# Altium footprint library Beethoven-clock.PcbLib: 36 footprints (part 3 of 3)
Each footprint in its own frame and in the unit in brackets; x right, y up, seen from the top. Pads: shape width x height; smd on the part's side, far side on the other; paste and mask are expansions set on the pad; w line width, h text height; cw(c..) or ccw(c..) is an arc to the next point about the centre after c.
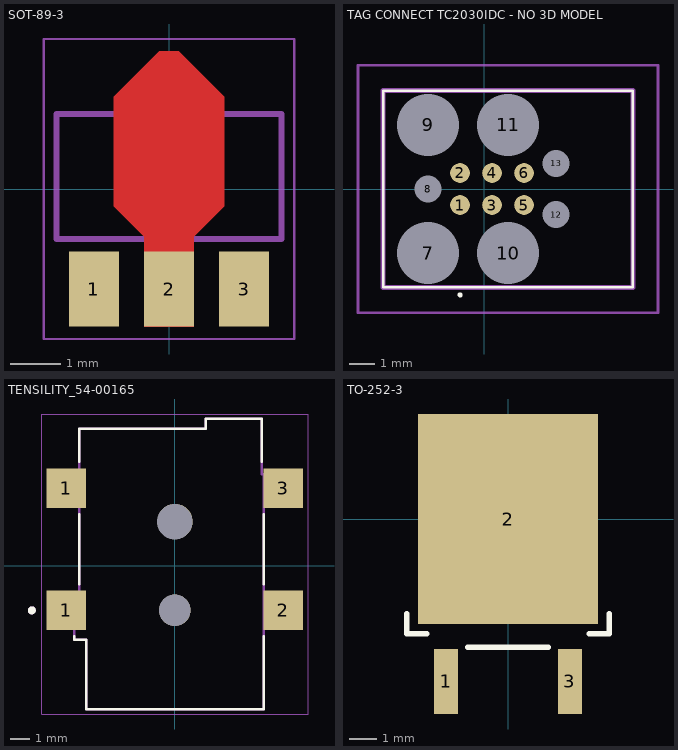
[diagram p2: the footprints below, top view; thin cyan lines are the x and y axes]

## SOT-89-3 [mm]
pads (3):
  rect 1x1.5 smd: 1(-1.5,-2) 3(1.5,-2)
  rect 1x1.5 smd paste-2: 2(0,-2)
Top Layer:
  region: 1.1,1.85 1.1,-0.35 0.5,-0.95 0.5,-2.75 -0.5,-2.75 -0.5,-0.95 -1.1,-0.35 -1.1,1.85 -0.2,2.75 0.2,2.75
Top Paste:
  region: 1.1,1.85 1.1,-0.35 0.5,-0.95 0.5,-2.75 -0.5,-2.75 -0.5,-0.95 -1.1,-0.35 -1.1,1.85 -0.2,2.75 0.2,2.75
Top Solder:
  region: 1.2,1.85 1.2,-0.35 0.6,-0.95 0.6,-2.85 -0.6,-2.85 -0.6,-0.95 -1.2,-0.35 -1.2,1.85 -0.2,2.85 0.2,2.85
Mechanical 13:
  lines w0.127: -2.25,-1 2.25,-1 2.25,1.5 -2.25,1.5 -2.25,-1
Mechanical 15:
  lines w0.05: -2.5,-3 2.5,-3 2.5,3 -2.5,3 -2.5,-3
3D body "step_temp.STEP": height 1.6, standoff 0, extent -2.25,-2.047 2.25,2.047

## TAG CONNECT TC2030IDC - NO 3D MODEL [mil]
pads (13):
  round 30.83 smd: 1(-37.52,-25) 2(-37.52,25) 3(12.48,-25) 4(12.48,25) 5(62.52,-25) 6(62.52,25)
  round 48.25 hole 96.5 unplated: 7(-87.52,-100) 9(-87.52,100) 10(37.48,-100) 11(37.48,100)
  round 21 hole 42.01 unplated: 8(-87.52,0) 12(112.48,-40) 13(112.48,40)
Top Overlay:
  lines w3.94: -157.48,-153.54 232.28,-153.54 232.28,153.54 -157.48,153.54 -157.48,-153.54 ; -39.37,-165.35 cw(c-37.4,-165.35) -35.43,-165.35 cw(c-37.4,-165.35) -39.37,-165.35
Mechanical 13:
  lines w7.87: -157.48,-153.54 232.28,-153.54 232.28,153.54 -157.48,153.54 -157.48,-153.54
Mechanical 15:
  lines w3.94: -196.85,-192.91 271.65,-192.91 271.65,192.91 -196.85,192.91 -196.85,-192.91

## TENSILITY_54-00165 [mm]
height 11.3
pads (6):
  rect 2x2 smd mask+0.05: 1(-5.5,-2.25) 1(-5.5,3.95) 2(5.5,-2.25) 3(5.5,3.95)
  round 1.6 hole 1.6 unplated: ""(0,-2.25)
  round 1.8 hole 1.8 unplated: ""(0,2.25)
Top Overlay:
  circle w0.2: c-7.25,-2.25 r0.1
  lines w0.127: -5.1,-3.57 -5.1,-3.75 -4.5,-3.75 -4.5,-7.25 4.5,-7.25 4.5,-3.57 ; -4.85,-0.93 -4.85,2.63 ; -4.85,5.27 -4.85,6.95 1.55,6.95 1.55,7.45 4.4,7.45 4.4,5.27 ; 4.5,-0.93 4.5,2.63
Mechanical 13:
  circle w0.2: c-7.25,-2.25 r0.1
  lines w0.127: -5.1,-3.75 -5.1,-2.15 -4.85,-2.15 -4.85,6.95 1.55,6.95 1.55,7.45 4.4,7.45 4.4,4.65 4.5,4.65 4.5,-7.25 -4.5,-7.25 -4.5,-3.75 -5.1,-3.75
Mechanical 15:
  lines w0.05: -6.75,-7.5 -6.75,7.7 6.75,7.7 6.75,-7.5 -6.75,-7.5
3D body "step_temp.STEP": height 11, standoff -1.2, extent -6.2,-7.25 6.2,7.45

## TO-252-3 [mil]
pads (3):
  rect 35x95 smd mask+6: 1(-90,-236.5) 3(90,-236.5)
  rect 262x306 smd mask+6: 2(0,0)
Top Overlay:
  lines w7.87: -147.64,-137.8 -147.64,-167.32 -118.11,-167.32 ; -59.06,-187.01 59.06,-187.01 ; 118.11,-167.32 147.64,-167.32 147.64,-137.8
3D body "TO-252-3_6P6X6P1_DIO.step": height 94.09, standoff -2.01, extent -130,-270 130,139.09